# Altium schematic symbol library mySch.SchLib: 83 symbols
Pins are listed as number, name and electrical type; pins without a type are passive.

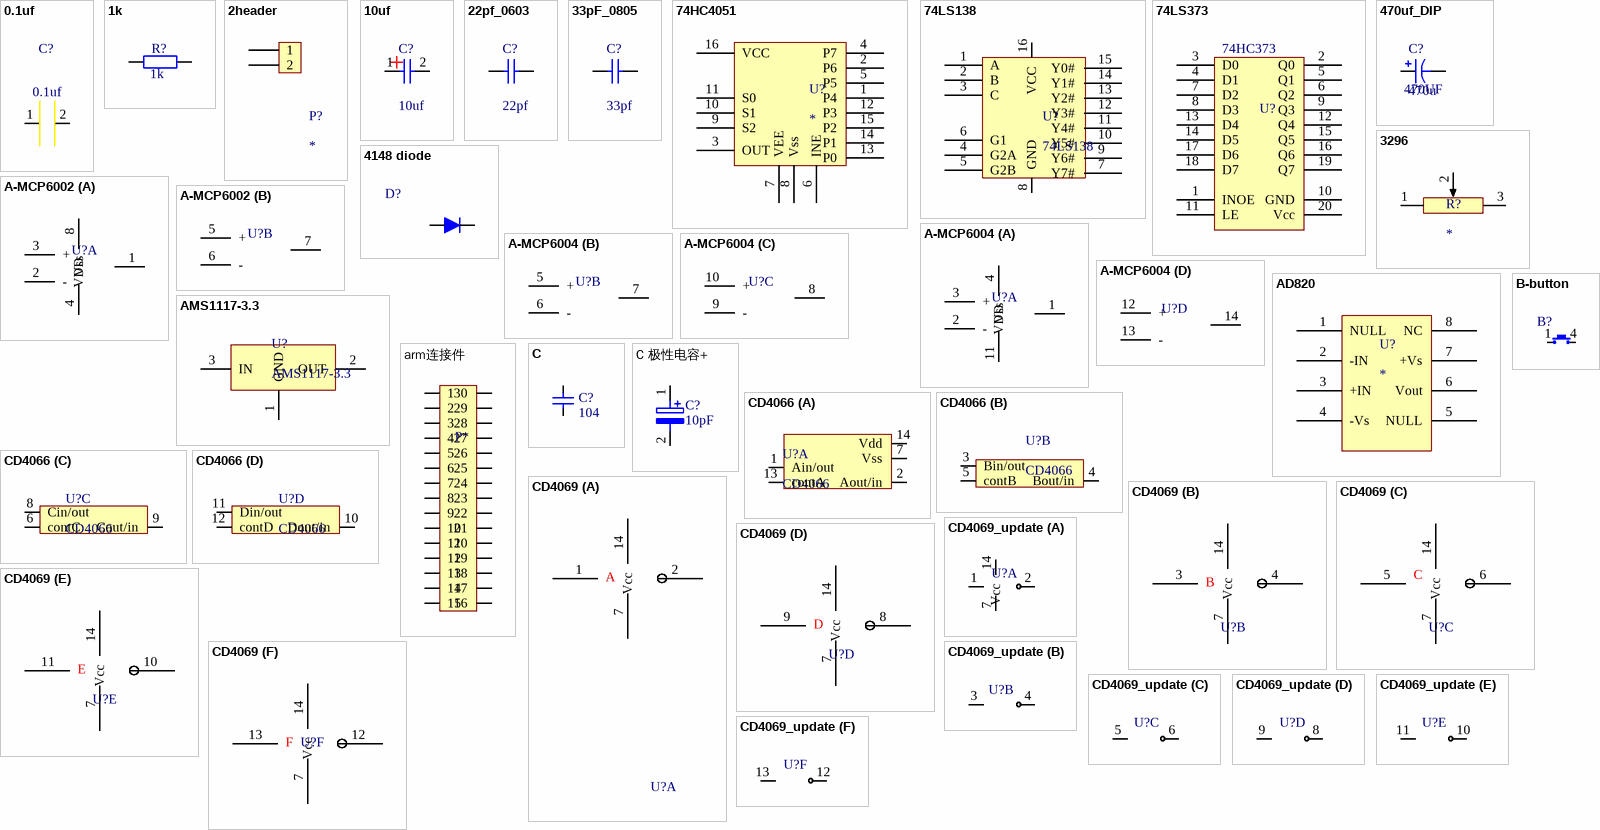
[diagram p0: symbols 0.1uf to CD4069_update]

## 0.1uf
designator C?
unused; Published: 8-Jun-2000; LatestRevisionDate: 17-Jul-2002; LatestRevisionNote: Re-released for DXP Platform.; PackageReference: C1206; Publisher: Altium Limited; Value: 0.1uf
footprint 0603C (DIP)
footprint header2
pins: 1, 2

## 1k
designator R?, comment unused  (value not drawn)
footprint R-DIP2(update)
footprint 0603R
footprint 0805
pins: 1, 2

## 2header
designator P?
unused
footprint header2
pins: 1, 2

## 10uf
designator C?
unused; Published: 8-Jun-2000; LatestRevisionDate: 17-Jul-2002; LatestRevisionNote: Re-released for DXP Platform.; PackageReference: C1206; Publisher: Altium Limited; Value: 10uf
footprint 0603C (DIP)
pins: 1, 2

## 22pf_0603
designator C?  value 22pf  (hidden comment: 22pf_0603)
unused; Published: 8-Jun-2000; LatestRevisionDate: 17-Jul-2002; LatestRevisionNote: Re-released for DXP Platform.; PackageReference: C1206; Publisher: Altium Limited
footprint 0603C (DIP)
footprint header2 (pin2)
pins: 1, 2

## 33pF_0805
designator C?  value 33pf  (hidden comment: 33pF_0805)
unused; Published: 8-Jun-2000; LatestRevisionDate: 17-Jul-2002; LatestRevisionNote: Re-released for DXP Platform.; PackageReference: C1206; Publisher: Altium Limited
footprint 0805C
footprint header2 (pin2)
pins: 1, 2

## 74HC4051
designator U?
unused
footprint DIP16-8mm (宽度为8mm)
footprint SOP16-280mil (宽度280mil)
pins: 1 P4, 2 P6, 3 OUT, 4 P7, 5 P5, 6 INE, 7 VEE, 8 Vss, 9 S2, 10 S1, 11 S0, 12 P3, 13 P0, 14 P1, 15 P2, 16 VCC

## 74LS138
designator U?
unused
footprint DIP16-8mm (宽度为8mm)
footprint SOP16 - 9mm/350mil (焊盘最远距离9mm/350mil，焊盘宽度0.6mm，)
pins: 1 A, 2 B, 3 C, 4 G2A, 5 G2B, 6 G1, 7 Y7#, 8 GND, 9 Y6#, 10 Y5#, 11 Y4#, 12 Y3#, 13 Y2#, 14 Y1#, 15 Y0#, 16 VCC

## 74LS373
designator U?  (value not drawn)
unused
footprint DIP20-300mil
pins: 1 INOE, 2 Q0, 3 D0, 4 D1, 5 Q1, 6 Q2, 7 D2, 8 D3, 9 Q3, 10 GND, 11 LE, 12 Q4, 13 D4, 14 D5, 15 Q5, 16 Q6, 17 D6, 18 D7, 19 Q7, 20 Vcc
text: 74HC373

## 470uf_DIP
designator C?, comment 470u  value 470UF
unused; Published: 8-Jun-2000; LatestRevisionDate: 17-Jul-2002; LatestRevisionNote: Re-released for DXP Platform.; PackageReference: POLAR0.8; Publisher: Altium Limited
footprint C-DIP 470uF (DIP)
footprint 7343C
pins: 1, 2
1 alternate drawing of the same symbol

## 3296
designator R?
unused
footprint 3296 (3296滑动电阻)
footprint R-3362 (3362 滑动电阻)
pins: 1, 2, 3

## 4148 diode
designator D?  (value not drawn)
unused
footprint diode
footprint SOD323 0805 (贴片二极管)
pins: 1, 2

## A-MCP6002
designator U?
footprint SOP8-250mil (中心宽度250mil，吸盘间距默认，长度默认)
part A pins: 1 OUT, 2 -, 3 +, 4 Vss, 8 VDD
part B pins: 5 +, 6 -, 7 OUT

## A-MCP6004
designator U?
footprint DIP14-320mil (宽度320mil)
part A pins: 1 OUT, 2 -, 3 +, 4 VDD, 11 Vss
part B pins: 5 +, 6 -, 7 OUT
part C pins: 8 OUT, 9 -, 10 +
part D pins: 12 +, 13 -, 14 OUT

## AD820
designator U?
精密JFET放大器，超高输入电阻，低功耗。可单电源，双电源
footprint DIP8-310mil
footprint SOP8-250mil (中心宽度200mil，吸盘间距默认，长度默认)
pins: 1 NULL, 2 -IN, 3 +IN, 4 -Vs "负电源供电", 5 NULL, 6 Vout, 7 +Vs "正电源供电", 8 NC

## AMS1117-3.3
designator U?
3.3V稳压器input 4.75-12V
footprint AMS1117-3.3 (SOT89, 3-Leads, Body 4.5x2.5mm (max), Pitch 1.50mm, Lead Span 3.3mm, IPC Medium Density)
footprint SOT223 (SOT223, 3-Leads, 塑料封装)
pins: 1 GND, 2 OUT, 3 IN

## arm连接件
designator P*, comment P*  (value not drawn)
footprint head 2*15
pins: 1, 2, 3, 4, 5, 6, 7, 8, 9, 10, 11, 12, 13, 14, 15, 16, 17, 18, 19, 20, 21, 22, 23, 24, 25, 26, 27, 28, 29, 30

## B-button
designator B?  (value not drawn)
button; Published: 24-Mar-1999; LatestRevisionDate: 17-Jul-2002; LatestRevisionNote: Re-released for DXP Platform.; PackageReference: SPST-2; Publisher: Altium Limited
footprint Button - 3*4*2.5 (3*4*2.5 轻触按键  包角 https://item.taobao.com/item.htm?id=554051899293)
pins: 1, 4

## C
designator C?, comment 104
贴片电容
footprint 0402C
footprint 0603C (DIP)
footprint 0805C
footprint 7343C
pins: 1, 2

## C 极性电容+
designator C?, comment 10pF
footprint C-DIP (DIP)
footprint 7343C
footprint 钽电容-B3528
pins: 1, 2
2 alternate drawings of the same symbol

## CD4066
designator U?
四路独立控制模拟开关,模拟开关导通时，导通电阻为几十欧姆；控制端为Vss时模拟开关截止，呈现很高的阻抗。可传输的模拟信号的上限频率为40MHz
footprint SOP14-7mm/280mil (焊盘最远距离7mm/270mil，焊盘宽度0.5mm，)
part A pins: 1 Ain/out, 2 Aout/in, 7 Vss, 13 contA, 14 Vdd
part B pins: 3 Bin/out, 4 Bout/in, 5 contB
part C pins: 6 contC, 8 Cin/out, 9 Cout/in
part D pins: 10 Dout/in, 11 Din/out, 12 contD

## CD4069
designator U?, comment 独立反相器  (value not drawn)
六个CMOS独立反相器
footprint SOP14-250mil
footprint SOIC14-190mil
part A pins: 1 IN1, 2 OUT1, 7 VSS, 14 Vcc (power)
part B pins: 3 IN1, 4 OUT1, 7 VSS, 14 Vcc
part C pins: 5 IN1, 6 OUT1, 7 VSS, 14 Vcc
part D pins: 7 VSS, 8, 9 IN1, 14 Vcc
part E pins: 7 VSS, 10, 11 IN1, 14 Vcc
part F pins: 7 VSS, 12, 13 IN1, 14 Vcc
part A text: A
part B text: B
part C text: C
part D text: D
part E text: E
part F text: F

## CD4069_update
designator U?, comment 独立反相器  (value not drawn)
六个CMOS独立反相器
footprint SOP14-250mil
footprint SOIC14-190mil
part A pins: 1 IN1, 2 OUT1, 7 VSS, 14 Vcc (power)
part B pins: 3 IN1, 4 OUT1
part C pins: 5 IN1, 6 OUT1
part D pins: 8 OUT1, 9 IN1
part E pins: 10 OUT1, 11 IN1
part F pins: 12 OUT1, 13 IN1

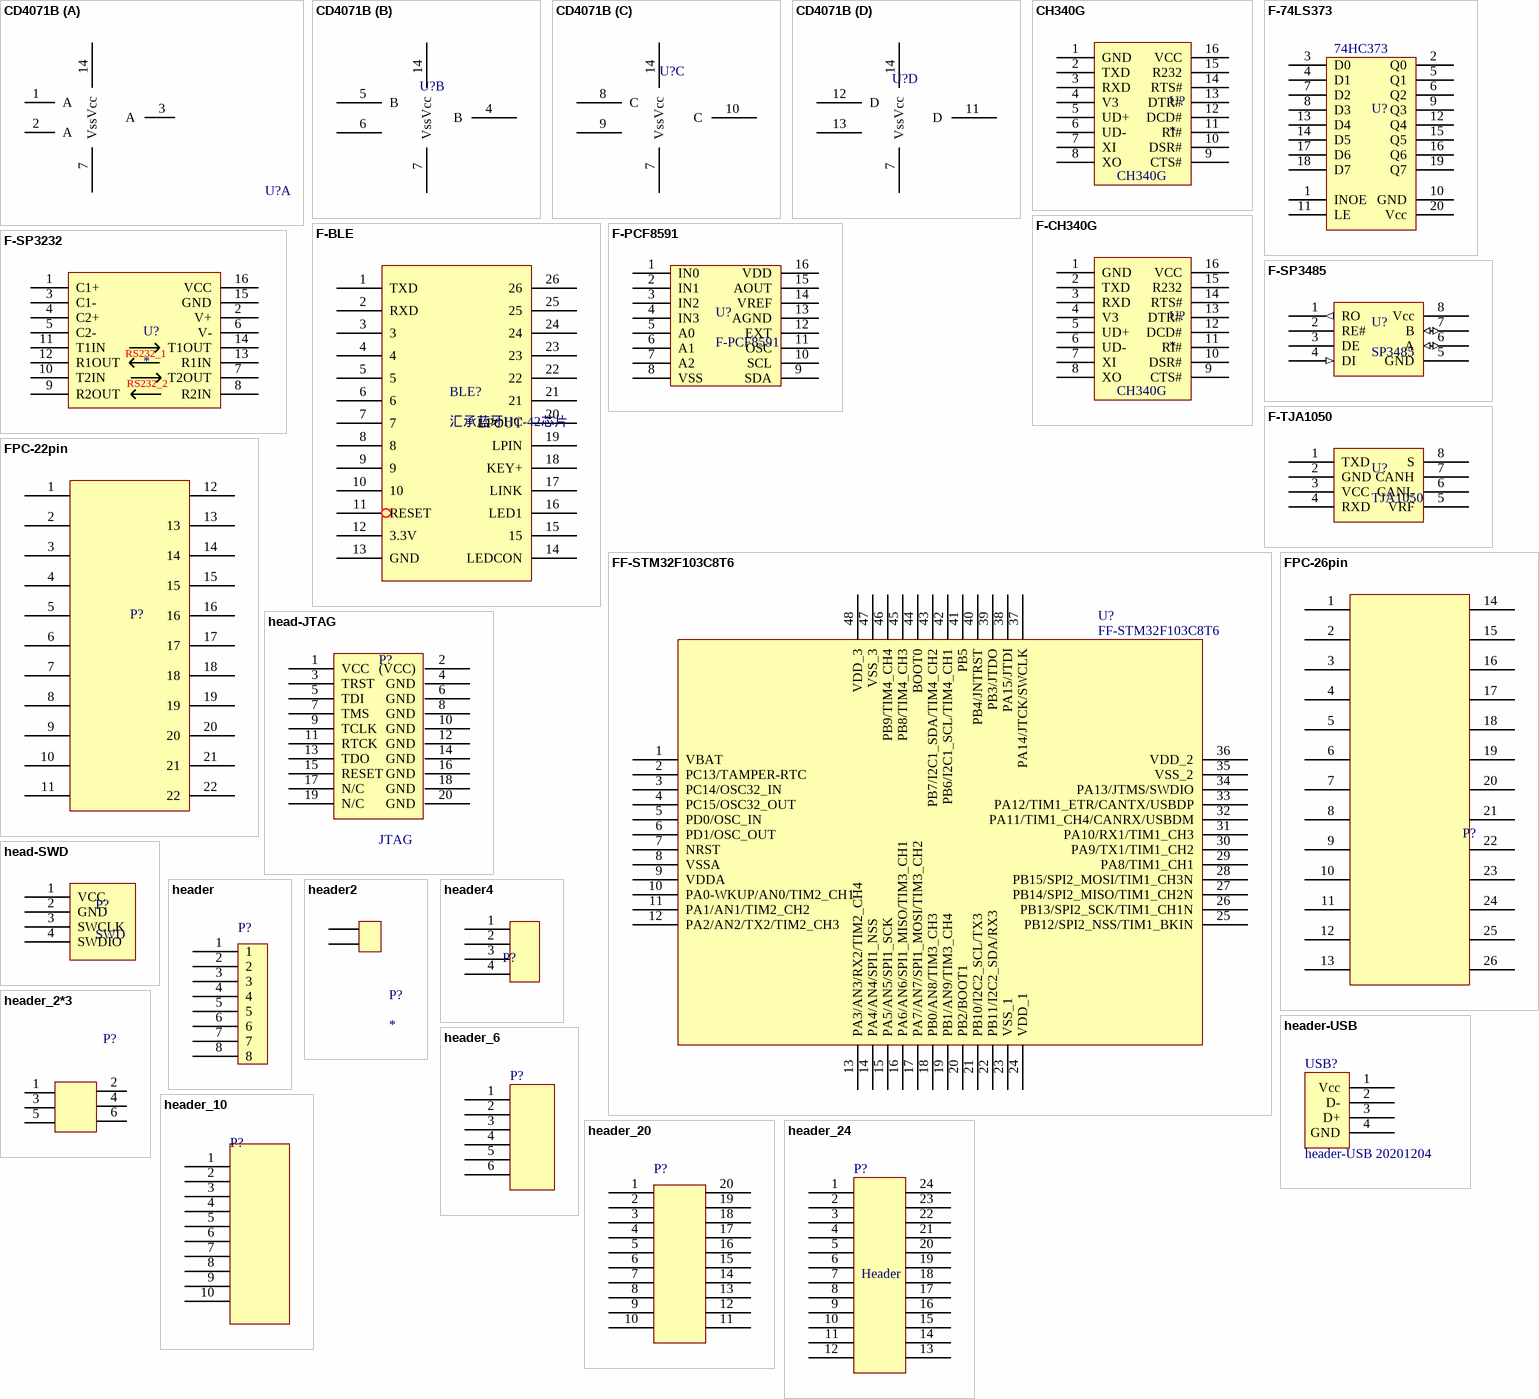
[diagram p1: symbols CD4071B to header_24]

## CD4071B
designator U?, comment 或门  (value not drawn)
CMOS或门
footprint SOP14-190mil
footprint SOP14-240mil
part A pins: 1 A, 2 A, 3 A, 7 Vss, 14 Vcc
part B pins: 4 B, 5 B, 6 20, 7 Vss, 14 Vcc
part C pins: 7 Vss, 8 C, 9 23, 10 C, 14 Vcc
part D pins: 7 Vss, 11 D, 12 D, 13 27, 14 Vcc

## CH340G
designator U?
USB转TTL
footprint SOP16-280mil (宽度280mil)
pins: 1 GND, 2 TXD, 3 RXD, 4 V3, 5 UD+, 6 UD-, 7 XI, 8 XO, 9 CTS#, 10 DSR#, 11 RI#, 12 DCD#, 13 DTR#, 14 RTS#, 15 R232, 16 VCC

## F-74LS373
designator U?  (value not drawn)
8路缓冲器
footprint DIP20-300mil
pins: 1 INOE, 2 Q0, 3 D0, 4 D1, 5 Q1, 6 Q2, 7 D2, 8 D3, 9 Q3, 10 GND, 11 LE, 12 Q4, 13 D4, 14 D5, 15 Q5, 16 Q6, 17 D6, 18 D7, 19 Q7, 20 Vcc
text: 74HC373

## F-BLE
designator BLE?, comment 汇承蓝牙HC-42芯片
footprint F-HC-08V20/22/41  2020.1.2 (2020.1.2   BLE低功耗蓝牙)
pins: 1 TXD, 2 RXD, 3, 4, 5, 6, 7, 8, 9, 10, 11 RESET, 12 3.3V, 13 GND, 14 LEDCON, 15, 16 LED1, 17 LINK, 18 KEY+, 19 LPIN "低功耗引脚。 低电平唤醒", 20 LPOUT, 21, 22, 23, 24, 25, 26

## F-CH340G
designator U?
USB转TTL; Risym: https://detail.tmall.com/item.htm?spm=a220m.1000858.1000725.1.71bf1bffO8Rjc5&id=41570729321&areaId=330200&user_id=738263294&cat_id=2&is_b=1&rn=5cdd9a7ff0f93527cda1b8ba9de2efa8; TELESKY: https://detail.tmall.com/item.htm?spm=a220m.1000858.1000725.16.71bf1bffO8Rjc5&id=43351354931&areaId=330200&user_id=2207691322&cat_id=2&is_b=1&rn=5cdd9a7ff0f93527cda1b8ba9de2efa8
footprint SOP16-280mil (宽度280mil)
pins: 1 GND, 2 TXD, 3 RXD, 4 V3, 5 UD+, 6 UD-, 7 XI, 8 XO, 9 CTS#, 10 DSR#, 11 RI#, 12 DCD#, 13 DTR#, 14 RTS#, 15 R232, 16 VCC
text: CH340G

## F-PCF8591
designator U?
8bit AD/DA
footprint DIP16-8mm (宽度为8mm)
pins: 1 IN0, 2 IN1, 3 IN2, 4 IN3, 5 A0, 6 A1, 7 A2, 8 VSS, 9 SDA, 10 SCL, 11 OSC, 12 EXT, 13 AGND, 14 VREF, 15 AOUT, 16 VDD

## F-SP3232
designator U?
TTL转RS232; TELESKY: https://detail.tmall.com/item.htm?spm=a1z10.3-b-s.w4011-16538328900.23.458c3d6cJVV4xe&id=538788234383&rn=4b7264644df3d34e4d2c62da1ac8b172&abbucket=10; Risym: https://detail.tmall.com/item.htm?spm=a230r.1.14.27.44807779IAh2qk&id=16509973773&ns=1&abbucket=2; 谷煦旗舰店: https://detail.tmall.com/item.htm?spm=a1z10.3-b.w4011-21914200018.17.179636f82oTSO0&id=604099058188&rn=a3fd5d4e94ce79830acfab1a923a058d&abbucket=10
footprint SOP16-280mil (宽度280mil)
pins: 1 C1+, 2 V+, 3 C1-, 4 C2+, 5 C2-, 6 V-, 7 T2OUT, 8 R2IN, 9 R2OUT, 10 T2IN, 11 T1IN, 12 R1OUT, 13 R1IN, 14 T1OUT, 15 GND, 16 VCC
text: RS232_1; RS232_2

## F-SP3485
designator U?, comment SP3485
TTL电平转化为RS485差分电平; 谷煦旗舰店: https://detail.tmall.com/item.htm?spm=a1z10.3-b.w4011-21914200018.17.4a9a36f8yTB6vm&id=604010529648&rn=dd810922bac82e77e207cea4c7472ddb&abbucket=10; Risym: https://detail.tmall.com/item.htm?spm=a220m.1000858.1000725.1.2878661fHZywpU&id=14029968673&areaId=330200&user_id=738263294&cat_id=2&is_b=1&rn=32a604a8b979d1af4ec08b45215b1c88
footprint SO-8
pins: 1 RO (out) "receive ouput", 2 RE#, 3 DE, 4 DI (in) "drive inpout", 5 GND, 6 A (io), 7 B (io), 8 Vcc (power)

## F-TJA1050
designator U?, comment TJA1050
TTL电平转化为CAN差分电平; 谷煦旗舰店: https://detail.tmall.com/item.htm?spm=a1z10.3-b.w4011-21914200018.20.5ff436f8E7z0J8&id=600755630794&rn=02e64e6ec83a55e74e0026d559aa8ddf&abbucket=10; Risym: https://detail.tmall.com/item.htm?spm=a220m.1000858.1000725.1.75026763icA6Is&id=13366528605&areaId=330200&user_id=738263294&cat_id=2&is_b=1&rn=bdd846621d4a2fa51b5b1de9489453f4; TELESKY: https://detail.tmall.com/item.htm?spm=a220m.1000858.1000725.56.75026763icA6Is&id=43226475452&areaId=330200&user_id=2207691322&cat_id=2&is_b=1&rn=bdd846621d4a2fa51b5b1de9489453f4
footprint SO-8
pins: 1 TXD, 2 GND, 3 VCC, 4 RXD, 5 VRF, 6 CANL, 7 CANH, 8 S

## FF-STM32F103C8T6
designator U?
STM32F103C8T6
footprint STM32F103C8T6 (TSQFP, 48-Leads, Body 9.2x9.2mm (max), Pitch 0.50mm, IPC Medium Density)
pins: 1 VBAT, 2 PC13/TAMPER-RTC, 3 PC14/OSC32_IN, 4 PC15/OSC32_OUT, 5 PD0/OSC_IN, 6 PD1/OSC_OUT, 7 NRST, 8 VSSA, 9 VDDA, 10 PA0-WKUP/AN0/TIM2_CH1, 11 PA1/AN1/TIM2_CH2, 12 PA2/AN2/TX2/TIM2_CH3, 13 PA3/AN3/RX2/TIM2_CH4, 14 PA4/AN4/SPI1_NSS, 15 PA5/AN5/SPI1_SCK, 16 PA6/AN6/SPI1_MISO/TIM3_CH1, 17 PA7/AN7/SPI1_MOSI/TIM3_CH2, 18 PB0/AN8/TIM3_CH3, 19 PB1/AN9/TIM3_CH4, 20 PB2/BOOT1, 21 PB10/I2C2_SCL/TX3, 22 PB11/I2C2_SDA/RX3, 23 VSS_1, 24 VDD_1, 25 PB12/SPI2_NSS/TIM1_BKIN, 26 PB13/SPI2_SCK/TIM1_CH1N, 27 PB14/SPI2_MISO/TIM1_CH2N, 28 PB15/SPI2_MOSI/TIM1_CH3N, 29 PA8/TIM1_CH1, 30 PA9/TX1/TIM1_CH2, 31 PA10/RX1/TIM1_CH3, 32 PA11/TIM1_CH4/CANRX/USBDM, 33 PA12/TIM1_ETR/CANTX/USBDP, 34 PA13/JTMS/SWDIO, 35 VSS_2, 36 VDD_2, 37 PA14/JTCK/SWCLK, 38 PA15/JTDI, 39 PB3/JTDO, 40 PB4/JNTRST, 41 PB5, 42 PB6/I2C1_SCL/TIM4_CH1, 43 PB7/I2C1_SDA/TIM4_CH2, 44 BOOT0, 45 PB8/TIM4_CH3, 46 PB9/TIM4_CH4, 47 VSS_3, 48 VDD_3

## FPC-22pin
designator P?, comment P*  (value not drawn)
footprint PFC_22pin_间隔1mm
pins: 1, 2, 3, 4, 5, 6, 7, 8, 9, 10, 11, 12, 13, 14, 15, 16, 17, 18, 19, 20, 21, 22

## FPC-26pin
designator P?, comment P*  (value not drawn)
间距1mm26引脚
footprint PFC_26pin_间隔1mm
pins: 1, 2, 3, 4, 5, 6, 7, 8, 9, 10, 11, 12, 13, 14, 15, 16, 17, 18, 19, 20, 21, 22, 23, 24, 25, 26

## head-JTAG
designator P?, comment JTAG
调试接口
pins: 1 VCC, 2 (VCC), 3 TRST, 4 GND, 5 TDI, 6 GND, 7 TMS, 8 GND, 9 TCLK, 10 GND, 11 RTCK, 12 GND, 13 TDO, 14 GND, 15 RESET, 16 GND, 17 N/C, 18 GND, 19 N/C, 20 GND

## head-SWD
designator P?, comment SWD
STM32代码下载口
footprint DIP4
pins: 1 VCC, 2 GND, 3 SWCLK, 4 SWDIO

## header
designator P?, comment 8header  (value not drawn)
连接输出IO口
footprint header8 (pin8，符合洞洞板)
footprint P 8x1 (plug_white_8)
pins: 1, 2, 3, 4, 5, 6, 7, 8

## header2
designator P?
连接输出IO口
footprint header2
footprint P 2x1 (Molex 76829-0002 电源公)
footprint DC-5mm (arduino charger / battery charger)
pins: 1, 2

## header4
designator P?
连接输出IO口
footprint header4 (pin4)
footprint P 4x1 (plug_white_8 关节角度传感器)
footprint P 4x1(2) (molex 503159-0400 CAN接口母)
footprint P 4x1(3) (molex 39281043 MOTOR电源接口公)
footprint P 2x2-1 (20210126)
pins: 1, 2, 3, 4

## header-USB
designator USB?, comment header-USB 20201204
footprint USB-A (直插A型母头USB数据口)
footprint USB-A公 (直插片A型公头USB数据口)
pins: 1 Vcc (power), 2 D-, 3 D+, 4 GND (power)

## header_2*3
designator P?, comment 6header  (value not drawn)
连接输出IO口
footprint head 3*2
pins: 1, 2, 3 2, 4 5, 5 3, 6 4

## header_6
designator P?, comment 6header  (value not drawn)
连接输出IO口
footprint P 2x3-300mil (Molex 43045-0612 霍尔传感器公)
pins: 1, 2, 3, 4, 5, 6

## header_10
designator P?, comment 20header  (value not drawn)
连接输出IO口
footprint head 10
footprint P 5x2 (3M N2510-6002-RB 编码器接口公)
footprint P 5x2-1
footprint P 5x2-2 (邮票孔 20210611)
footprint HEAD 10-1 (1.27mm 排针 210625)
pins: 1, 2, 3, 4, 5, 6, 7, 8, 9, 10

## header_20
designator P?, comment 20header  (value not drawn)
连接输出IO口
footprint head 20
footprint head 2*10
footprint HEAD 20-1
footprint HEAD-20-2 (1.27mm 排针 210625)
pins: 1, 2, 3, 4, 5, 6, 7, 8, 9, 10, 11, 12, 13, 14, 15, 16, 17, 18, 19, 20

## header_24
designator P?, comment 20header  (value not drawn)
电源插口
footprint P-2x12 (Molex 15246240  间距4.2mm 5.5mm  24pin电源线 right angle)
footprint P-2x12(1) (Molex 039281243  间距4.2mm 5.5mm  24pin电源线)
footprint P-2x12-19.11.26 (Molex 15246240  间距4.2mm 5.5mm  24pin电源线 right angle)
pins: 1, 2, 3, 4, 5, 6, 7, 8, 9, 10, 11, 12, 13, 14, 15, 16, 17, 18, 19, 20, 21, 22, 23, 24
text: Header

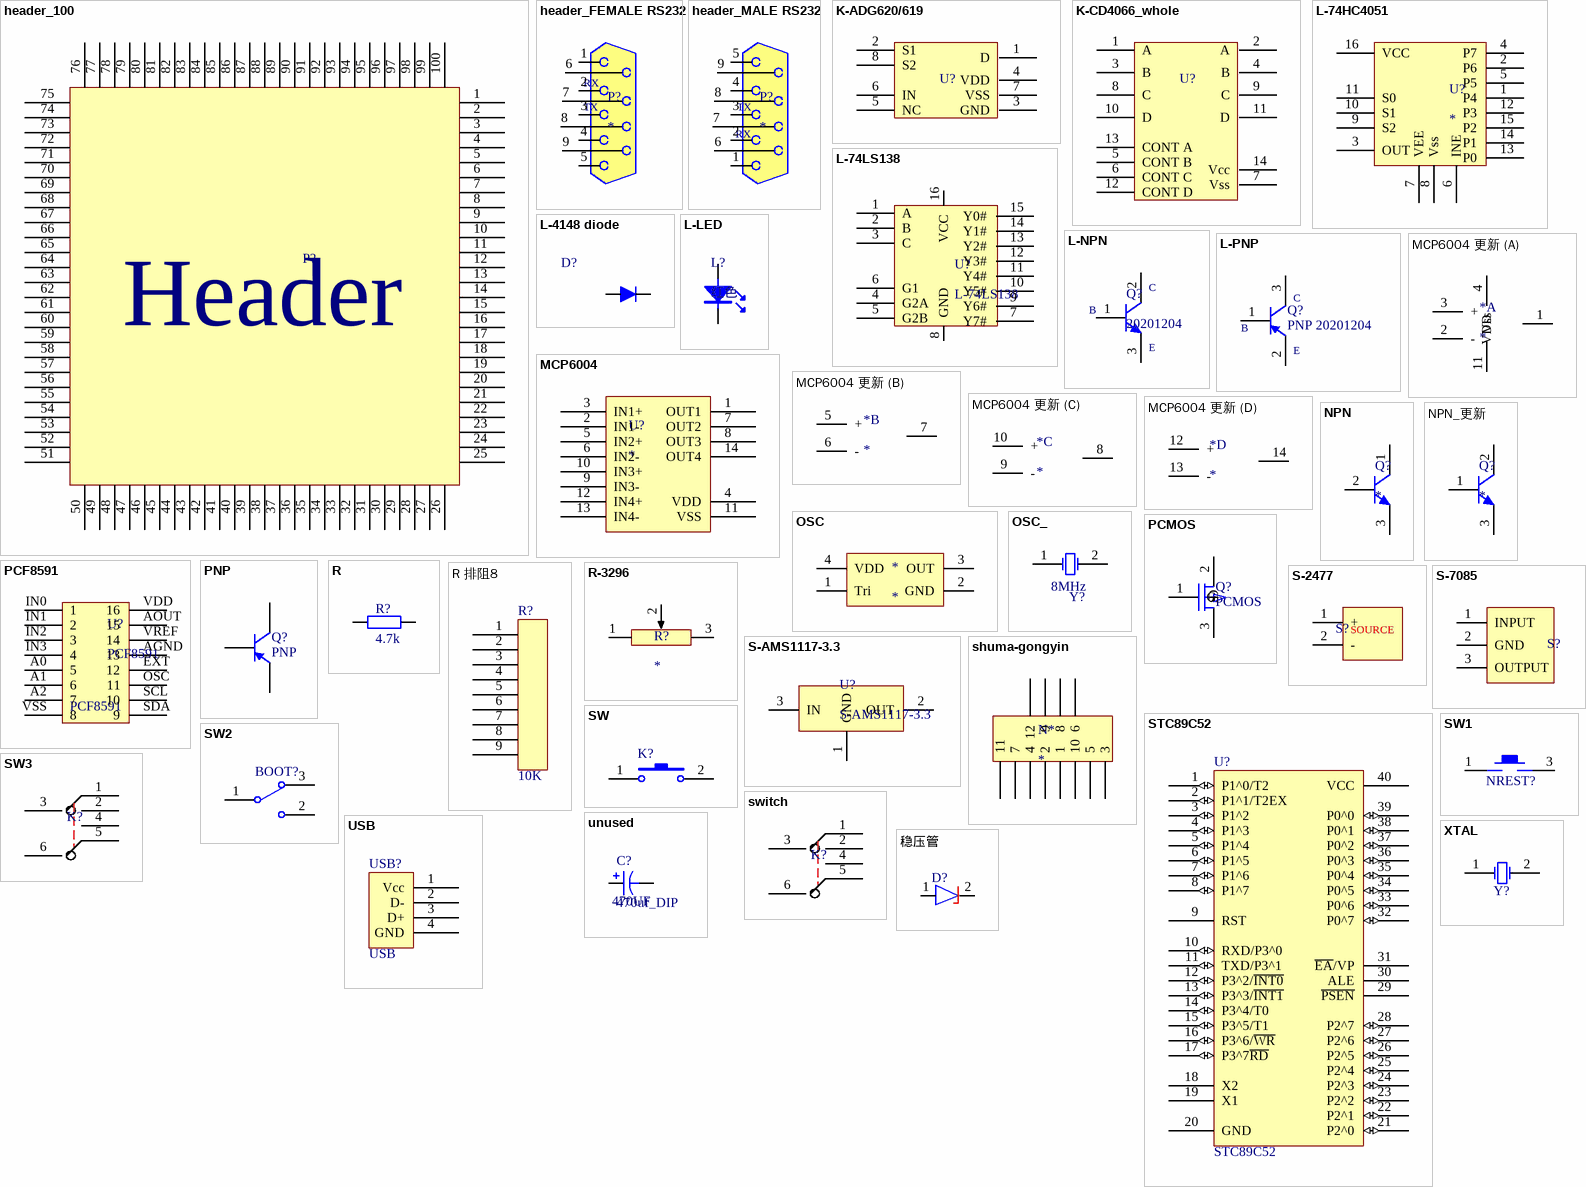
[diagram p2: symbols header_100 to 稳压管]

## header_100
designator P?, comment 100header  (value not drawn)
信号线
footprint P-2x50
footprint P-2x50(2) (HIF6-100PA-1.27DS)
footprint P-2x50 B (HIF6-100PA-1.27DS)
pins: 1 25, 2 25, 3 25, 4 25, 5 25, 6 25, 7 25, 8 25, 9 25, 10 25, 11 25, 12 25, 13 25, 14 25, 15 25, 16 25, 17 25, 18 25, 19 25, 20 25, 21 25, 22 25, 23 25, 24 25, 25, 26 25, 27 25, 28 25, 29 25, 30 25, 31 25, 32 25, 33 25, 34 25, 35 25, 36 25, 37 25, 38 25, 39 25, 40 25, 41 25, 42 25, 43 25, 44 25, 45 25, 46 25, 47 25, 48 25, 49 25, 50 25, 51 25, 52 25, 53 25, 54 25, 55 25, 56 25, 57 25, 58 25, 59 25, 60 25, 61 25, 62 25, 63 25, 64 25, 65 25, 66 25, 67 25, 68 25, 69 25, 70 25, 71 25, 72 25, 73 25, 74 25, 75 25, 76 25, 77 25, 78 25, 79 25, 80 25, 81 25, 82 25, 83 25, 84 25, 85 25, 86 25, 87 25, 88 25, 89 25, 90 25, 91 25, 92 25, 93 25, 94 25, 95 25, 96 25, 97 25, 98 25, 99 25, 100 25
text: Header

## header_FEMALE RS232
designator P?
芯城兴: https://detail.tmall.com/item.htm?spm=a230r.1.14.124.3fc0602chtFjq3&id=623889175135&ns=1&abbucket=2&skuId=4407327552389; 谷煦旗舰店: https://detail.tmall.com/item.htm?spm=a1z10.3-b.w4011-21914200018.69.5f4536f8Z9RXxP&id=616793687973&rn=764a41e66e0d87a1f32aff4451e0141e&abbucket=10
footprint DIP-RS232_female (RS232母插头)
pins: 1 3, 2 Rx, 3 Tx, 4 6, 5 7, 6, 7, 8, 9
text: RX; TX

## header_MALE RS232
designator P?
芯城兴: https://detail.tmall.com/item.htm?spm=a230r.1.14.124.3fc0602chtFjq3&id=623889175135&ns=1&abbucket=2&skuId=4407327552389; 谷煦旗舰店: https://detail.tmall.com/item.htm?spm=a1z10.3-b.w4011-21914200018.69.5f4536f8Z9RXxP&id=616793687973&rn=764a41e66e0d87a1f32aff4451e0141e&abbucket=10
footprint DIP-RS232_female (RS232母插头)
pins: 1 7, 2 6, 3 R, 4 T, 5 3, 6, 7 8, 8 7, 9 6
text: TX; RX

## K-ADG620/619
designator U?, comment 最大电流50mA  (value not drawn)
一路独立控制模拟开关
footprint MSOP8-7.5mm (焊盘宽度0.4mm，最大宽度7.5mm)
pins: 1 D, 2 S1, 3 GND, 4 VDD, 5 NC, 6 IN, 7 VSS, 8 S2

## K-CD4066_whole
designator U?, comment 最大电流10mA  (value not drawn)
四路独立控制模拟开关
footprint SOP14-7mm-20201018 (焊盘中间距离7mm/270mil，焊盘宽度0.5mm，长度2mm)
footprint SOP14-7mm/280mil (焊盘最远距离7mm/270mil，焊盘宽度0.5mm，)
pins: 1 A, 2 A, 3 B, 4 B, 5 CONT B, 6 CONT C, 7 Vss, 8 C, 9 C, 10 D, 11 D, 12 CONT D, 13 CONT A, 14 Vcc

## L-74HC4051
designator U?
八选一模拟双向开关; logical component: *
footprint DIP16-8mm (宽度为8mm)
footprint SOP16-280mil (宽度280mil)
pins: 1 P4, 2 P6, 3 OUT, 4 P7, 5 P5, 6 INE, 7 VEE, 8 Vss, 9 S2, 10 S1, 11 S0, 12 P3, 13 P0, 14 P1, 15 P2, 16 VCC

## L-74LS138
designator U?
38译码器，类似于8选一; logical component: *
footprint DIP16-8mm (宽度为8mm)
footprint SOP16 - 9mm/350mil (焊盘最远距离9mm/350mil，焊盘宽度0.6mm，)
pins: 1 A, 2 B, 3 C, 4 G2A, 5 G2B, 6 G1, 7 Y7#, 8 GND, 9 Y6#, 10 Y5#, 11 Y4#, 12 Y3#, 13 Y2#, 14 Y1#, 15 Y0#, 16 VCC

## L-4148 diode
designator D?  (value not drawn)
高速开关二极管
footprint diode
footprint SOD323 0805 (贴片二极管)
pins: 1, 2

## L-LED
designator L?, comment 红色
footprint 0805
footprint 0603C (DIP)
pins: 1, 2

## L-NPN
designator Q?, comment 20201204
footprint 三极管DIP3
footprint S-78XX_1mm (孔的大小为1mm)
footprint To-220-3 (孔直径为67mil)
pins: 1 B, 2 C, 3 E

## L-PNP
designator Q?, comment PNP 20201204
PCMOS; Manufacturer: Fairchild Semiconductor; Revised: 11-July-2000: SIM Model Added.; Class: Discrete; SubClass: BJT - Low Power; Published: 8/06/2000; Publisher: Altium Hobart Technology Centre
footprint SOT23-3
pins: 1 B, 2 E, 3 C

## MCP6004
designator U?
精密放大器。极低的失调电压，高输入阻抗。
footprint DIP14-320mil (宽度320mil)
pins: 1 OUT1, 2 IN1-, 3 IN1+, 4 VDD, 5 IN2+, 6 IN2-, 7 OUT2, 8 OUT3, 9 IN3-, 10 IN3+, 11 VSS, 12 IN4+, 13 IN4-, 14 OUT4

## MCP6004 更新
designator *
footprint DIP14-320mil (宽度320mil)
part A pins: 1 OUT, 2 -, 3 +, 4 VDD, 11 Vss
part B pins: 5 +, 6 -, 7 OUT
part C pins: 8 OUT, 9 -, 10 +
part D pins: 12 +, 13 -, 14 OUT

## NPN
designator Q?
footprint 三极管DIP3
footprint S-78XX_1mm (孔的大小为1mm)
footprint To-220-3 (孔直径为67mil)
pins: 1 C, 2 B, 3 E

## NPN_更新
designator Q?
footprint 三极管DIP3
footprint S-78XX_1mm (孔的大小为1mm)
footprint To-220-3 (孔直径为67mil)
pins: 1 C, 2 B, 3 E

## OSC
designator *
有源晶体，晶振
pins: 1 Tri, 2 GND, 3 OUT, 4 VDD

## OSC_
designator Y?, comment frequent: 8MHz  (hidden comment: OSC_8MHz)
晶体; Published: 8-Jun-2000; LatestRevisionDate: 17-Jul-2002; LatestRevisionNote: Re-released for DXP Platform.; PackageReference: R38; Publisher: Altium Limited
footprint XTAL_12Mhz
footprint XTAL_1DIP2 (2*6mm 圆柱晶体)
pins: 1 OSC1, 2 OSC2

## PCF8591
designator U?
footprint DIP16-8mm (宽度为8mm); pin to pad A0>5 A1>6 A2>7 AGND>13 AOUT>15 EXT>12 IN0>1 IN1>2 IN2>3 IN3>4 OSC>11 SCL>10 SDA>9 VDD>16 VREF>14 VSS>8
pins: A0 5, A1 6, A2 7, AGND 13, AOUT 15, EXT 12, IN0 1, IN1 2, IN2 3, IN3 4, OSC 11, SCL 10, SDA 9, VDD 16, VREF 14, VSS 8

## PCMOS
designator Q?
Manufacturer: Fairchild Semiconductor; Revised: 11-July-2000: SIM Model Added.; Class: Discrete; SubClass: BJT - Low Power; Published: 8/06/2000; Publisher: Altium Hobart Technology Centre
footprint SOT23-3
pins: 1 G, 2 S, 3 D

## PNP
designator Q?
PCMOS; Manufacturer: Fairchild Semiconductor; Revised: 11-July-2000: SIM Model Added.; Class: Discrete; SubClass: BJT - Low Power; Published: 8/06/2000; Publisher: Altium Hobart Technology Centre
footprint SOT23-3
pins: 1 B, 2 E, 3 C

## R
designator R?, comment 4.7k
电阻
footprint R-DIP2(update)
footprint 0603R
footprint 0805
pins: 1, 2

## R 排阻8
designator R?, comment 10K
footprint paizhu
pins: 1 (power), 2, 3, 4, 5, 6, 7, 8, 9

## R-3296
designator R?
滑动变阻器
footprint 3296 (3296滑动电阻)
footprint R-3362 (3362 滑动电阻)
pins: 1, 2, 3

## S-2477
designator S?, comment S?  (value not drawn)
4.0V 纽扣电池
footprint S-lowPower (3.6V 纽扣电池)
pins: 1 +, 2 -
text: SOURCE

## S-7085
designator S?  (value not drawn)
稳压芯片
footprint S-78XX_1mm (孔的大小为1mm)
pins: 1 INPUT, 2 GND, 3 OUTPUT

## S-AMS1117-3.3
designator U?
3.3V稳压器input 4.75-12V; 谷煦旗舰店: https://detail.tmall.com/item.htm?spm=a1z10.3-b.w4011-21914200018.31.60b636f8ldMn21&id=599810468013&rn=9c7a8e058a156d8f5c83f9f4f0475ea4&abbucket=10; TELESKY: https://detail.tmall.com/item.htm?spm=a1z10.3-b-s.w4011-16538328900.25.6b513d6cip8zmB&id=41254373921&rn=e050efd34262718d07b89545005f2aaa&abbucket=10; Risym: https://detail.tmall.com/item.htm?id=13763392732&ali_refid=a3_430582_1006:1104520036:N:KmezBrnWnsp9P1ekipd0hs8d+rO6fbM3:f55da9b07af0b6bf50db986697985169&ali_trackid=1_f55da9b07af0b6bf50db986697985169&spm=a230r.1.14.11
footprint AMS1117-3.3 (SOT89, 3-Leads, Body 4.5x2.5mm (max), Pitch 1.50mm, Lead Span 3.3mm, IPC Medium Density)
footprint SOT223 (SOT223, 3-Leads, 塑料封装)
pins: 1 GND, 2 OUT, 3 IN

## shuma-gongyin
designator N*
footprint 4shuma
pins: 1, 2, 3, 4, 5, 6, 7, 8, 9, 10, 11, 12

## STC89C52
designator U?
footprint DIP40_600mil_AT89C52 (宽度600mil)
pins: 1 P1^0/T2 (io), 2 P1^1/T2EX (io), 3 P1^2 (io), 4 P1^3 (io), 5 P1^4 (io), 6 P1^5 (io), 7 P1^6 (io), 8 P1^7 (io), 9 RST, 10 RXD/P3^0 (io), 11 TXD/P3^1 (io), 12 P3^2/~{INT0} (io), 13 P3^3/~{INT1} (io), 14 P3^4/T0 (io), 15 P3^5/T1 (io), 16 P3^6/~{WR} (io), 17 P3^7~{RD} (io), 18 X2, 19 X1, 20 GND, 21 P2^0 (io), 22 P2^1 (io), 23 P2^2 (io), 24 P2^3 (io), 25 P2^4 (io), 26 P2^5 (io), 27 P2^6 (io), 28 P2^7 (io), 29 ~{PSEN}, 30 ALE, 31 ~{EA}/VP, 32 P0^7 (io), 33 P0^6 (io), 34 P0^5 (io), 35 P0^4 (io), 36 P0^3 (io), 37 P0^2 (io), 38 P0^1 (io), 39 P0^0 (io), 40 VCC

## SW
designator K?  (value not drawn)
Switch; Published: 24-Mar-1999; LatestRevisionDate: 17-Jul-2002; LatestRevisionNote: Re-released for DXP Platform.; PackageReference: SPST-2; Publisher: Altium Limited
footprint switch
pins: 1, 2

## SW1
designator NREST?  (value not drawn)
微动开关; 谷煦旗舰店: https://detail.tmall.com/item.htm?spm=a230r.1.14.18.2ebe757dRzuSOa&id=609921027948&ns=1&abbucket=11&skuId=4292473404682; BZCN博众电气: https://item.taobao.com/item.htm?spm=a230r.1.14.43.3354381by3NSil&id=622445763321&ns=1&abbucket=2#detail
footprint switch (能够自锁的开关，采用对角线焊接就没错)
footprint switch-1
footprint switch-arduino (直插微动开关，采用对角线焊接就没错)
pins: 1, 3
2 alternate drawings of the same symbol

## SW2
designator BOOT?, comment BOOT0  (value not drawn)
拨动开关; 谷煦旗舰店: https://detail.tmall.com/item.htm?spm=a1z10.3-b.w4011-21914200018.124.492736f8wdUY8l&id=615201617426&rn=66c3e8553830f7e49fc799b44dc7224b&abbucket=5
footprint SWITCH-2
footprint SWITCH-2 - 20210507
footprint SWITCH-2 - 20210613
pins: 1 (power), 2 (power), 3 (power)

## SW3
designator K?, comment Key  (value not drawn)
按压开关
footprint DIP8*8自锁开关
pins: 1, 2, 3, 4, 5, 6

## switch
designator K?, comment Key  (value not drawn)
按压开关
footprint DIP8*8自锁开关
pins: 1, 2, 3, 4, 5, 6

## unused
designator C?, comment 470uf_DIP  value 470UF
Polarized Capacitor (Axial); Published: 8-Jun-2000; LatestRevisionDate: 17-Jul-2002; LatestRevisionNote: Re-released for DXP Platform.; PackageReference: POLAR0.8; Publisher: Altium Limited
footprint 7343C
pins: 1, 2
1 alternate drawing of the same symbol

## USB
designator USB?
footprint USB-A (直插A型母头USB数据口)
footprint USB-A公 (直插片A型公头USB数据口)
pins: 1 Vcc (power), 2 D-, 3 D+, 4 GND (power)

## XTAL
designator Y?  (value not drawn)
Crystal Oscillator; Published: 8-Jun-2000; LatestRevisionDate: 17-Jul-2002; LatestRevisionNote: Re-released for DXP Platform.; PackageReference: R38; Publisher: Altium Limited
footprint XTAL_1DIP2 (2*6mm 圆柱晶体)
footprint XTAL_ (210628)
pins: 1 OSC1, 2 OSC2

## 稳压管
designator D?  (value not drawn)
稳压管
footprint R-DIP2(update)
pins: 1 -, 2 +